# Altium schematic symbol library CC2500.SchLib: 1 symbol
Pins are listed as number, name and electrical type; pins without a type are passive.

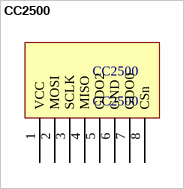
[diagram p0: symbol CC2500]

## CC2500
designator CC2500
pins: 1 VCC, 2 MOSI, 3 SCLK, 4 MISO, 5 GDO2, 6 GND, 7 GDO0, 8 CSn